# Altium schematic symbol library 2.45 GHz RF Balun.SchLib: 1 symbol
Pins are listed as number, name and electrical type; pins without a type are passive.

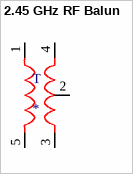
[diagram p0: symbol 2.45 GHz RF Balun]

## 2.45 GHz RF Balun
designator T
footprint 2.45 GHz RF Balun (SOTFL, 6-Leads, Body 2.00x1.25mm, Pitch 0.65mm, IPC Medium Density)
pins: 1, 2, 3, 4, 5